# Altium footprint library PCB1.PcbLib: 14 footprints
Each footprint in its own frame and in the unit in brackets; x right, y up, seen from the top. Pads: shape width x height; smd on the part's side, far side on the other; paste and mask are expansions set on the pad; w line width, h text height; cw(c..) or ccw(c..) is an arc to the next point about the centre after c.
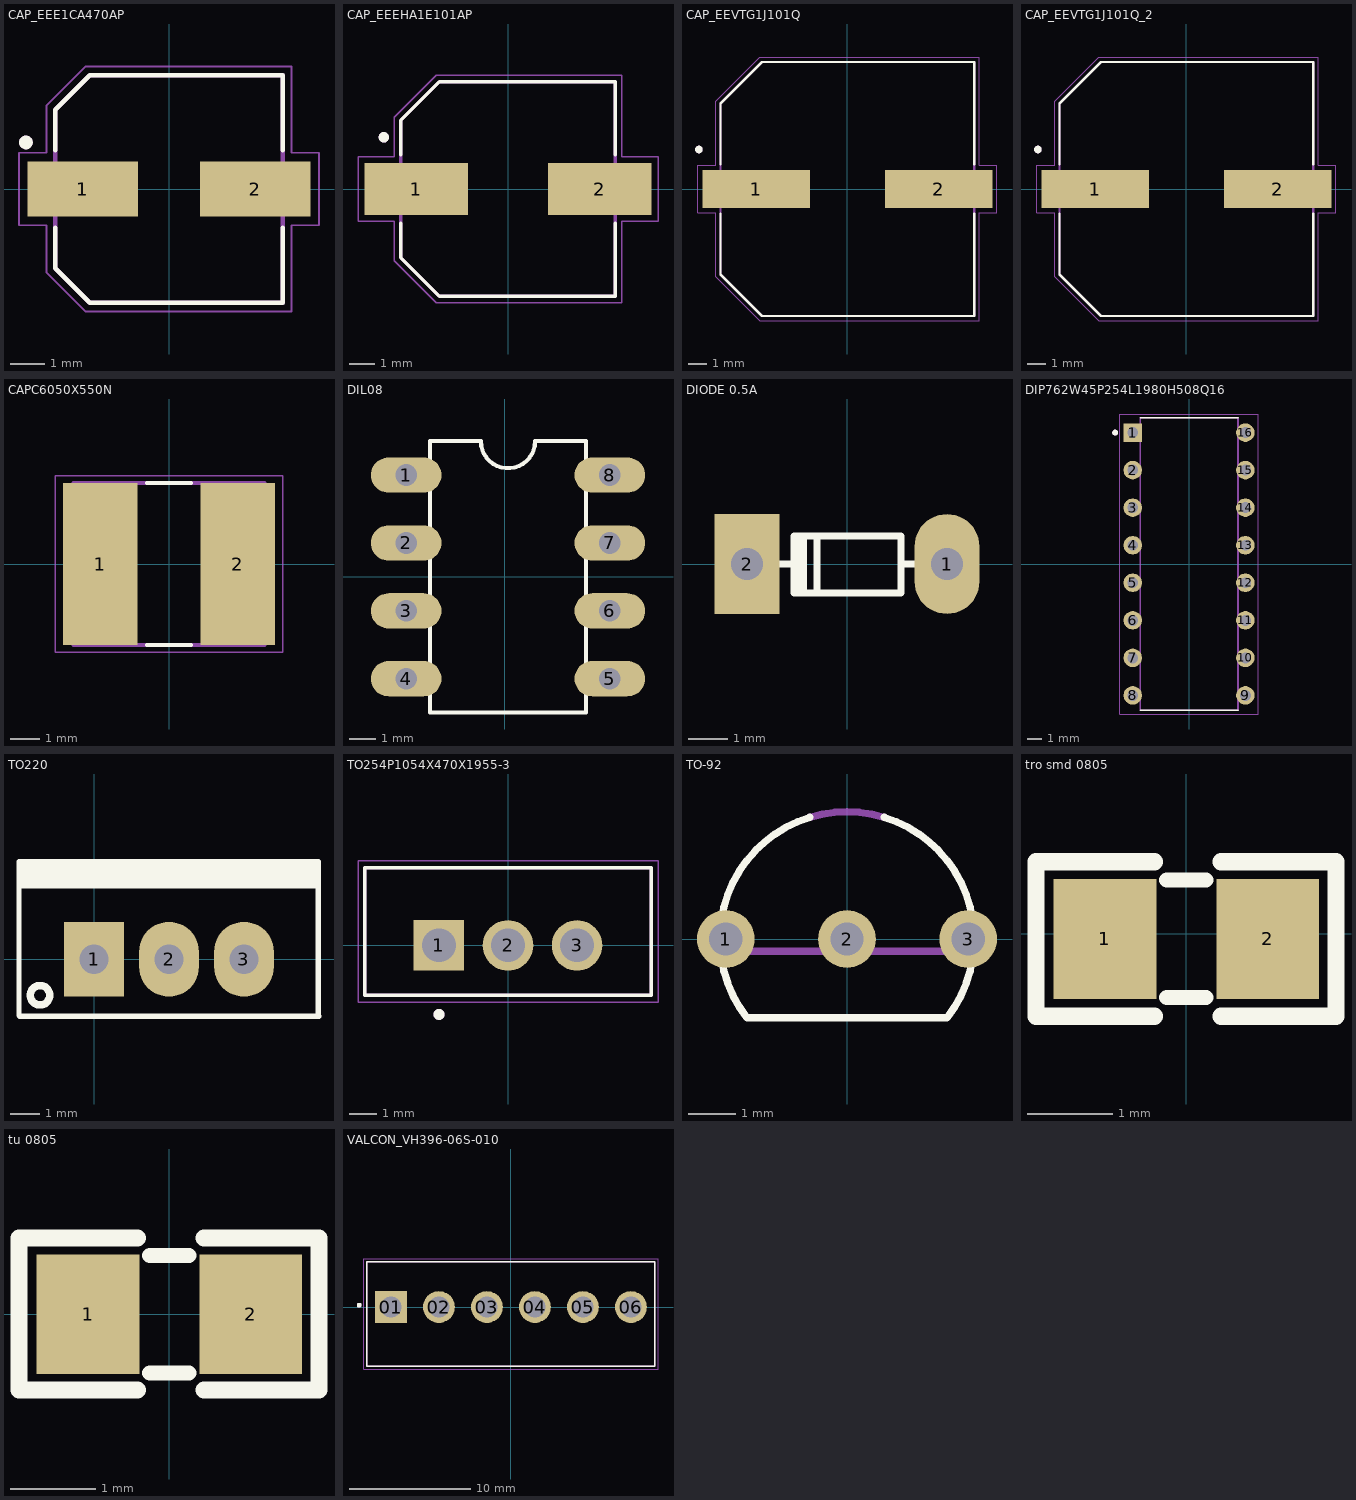
[diagram p0: the footprints below, top view; thin cyan lines are the x and y axes]

## CAP_EEE1CA470AP [mm]
pads (2):
  rect 3.2x1.6 smd: 1(-2.5,0) 2(2.5,0)
Top Overlay:
  circle w0.2: c-4.15,1.35 r0.1
  lines w0.127: -3.3,-1.12 -3.3,-2.3 -2.3,-3.3 3.3,-3.3 3.3,-1.12 ; -3.3,1.12 -3.3,2.3 -2.3,3.3 3.3,3.3 3.3,1.12
Mechanical 13:
  circle w0.2: c-4.15,1.35 r0.1
  lines w0.127: -3.3,-2.3 -2.3,-3.3 3.3,-3.3 3.3,3.3 -2.3,3.3 -3.3,2.3 -3.3,-2.3
Mechanical 15:
  lines w0.05: -4.35,-1.05 -4.35,1.05 -3.55,1.05 -3.55,2.425 -2.425,3.55 3.55,3.55 3.55,1.05 4.35,1.05 4.35,-1.05 3.55,-1.05 3.55,-3.55 -2.425,-3.55 -3.55,-2.425 -3.55,-1.05 -4.35,-1.05
3D body "step_temp.STEP": height 5.8, standoff 0, extent -3.65,-3.3 3.65,3.3

## CAP_EEEHA1E101AP [mm]
pads (2):
  rect 4x2 smd: 1(-3.55,0) 2(3.55,0)
Top Overlay:
  circle w0.2: c-4.8,2 r0.1
  lines w0.127: -4.15,-1.32 -4.15,-2.65 -2.65,-4.15 4.15,-4.15 4.15,-1.32 ; -4.15,1.32 -4.15,2.65 -2.65,4.15 4.15,4.15 4.15,1.32
Mechanical 13:
  circle w0.2: c-4.8,2 r0.1
  lines w0.127: -4.15,-2.65 -4.15,2.65 -2.65,4.15 4.15,4.15 4.15,-4.15 -2.65,-4.15 -4.15,-2.65
Mechanical 15:
  lines w0.05: -5.8,-1.25 -4.4,-1.25 -4.4,-2.775 -2.775,-4.4 4.4,-4.4 4.4,-1.25 5.8,-1.25 5.8,1.25 4.4,1.25 4.4,4.4 -2.775,4.4 -4.4,2.775 -4.4,1.25 -5.8,1.25 -5.8,-1.25
3D body "step_temp.STEP": height 10.2, standoff 0, extent -4.85,-4.15 4.85,4.15

## CAP_EEVTG1J101Q [mm]
pads (2):
  rect 5.7x2 smd: 1(-4.85,0) 2(4.85,0)
Top Overlay:
  circle w0.2: c-7.9,2.1 r0.1
  lines w0.127: -6.75,-1.32 -6.75,-4.55 -4.55,-6.75 6.75,-6.75 6.75,-1.32 ; -6.75,1.32 -6.75,4.55 -4.55,6.75 6.75,6.75 6.75,1.32
Mechanical 13:
  circle w0.2: c-7.9,2.1 r0.1
  lines w0.127: -6.75,-4.55 -4.55,-6.75 6.75,-6.75 6.75,6.75 -4.55,6.75 -6.75,4.55 -6.75,-4.55
Mechanical 15:
  lines w0.05: -7.95,-1.25 -7.95,1.25 -7,1.25 -7,4.675 -4.675,7 7,7 7,1.25 7.95,1.25 7.95,-1.25 7,-1.25 7,-7 -4.675,-7 -7,-4.675 -7,-1.25 -7.95,-1.25
3D body "step_temp.STEP": height 13.5, standoff 0, extent -7.45,-6.75 7.45,6.75

## CAP_EEVTG1J101Q_2 [mm]
pads (2):
  rect 5.7x2 smd: 1(-4.85,0) 2(4.85,0)
Top Overlay:
  circle w0.2: c-7.9,2.1 r0.1
  lines w0.127: -6.75,-1.32 -6.75,-4.55 -4.55,-6.75 6.75,-6.75 6.75,-1.32 ; -6.75,1.32 -6.75,4.55 -4.55,6.75 6.75,6.75 6.75,1.32
Mechanical 13:
  circle w0.2: c-7.9,2.1 r0.1
  lines w0.127: -6.75,-4.55 -6.75,4.55 -4.55,6.75 6.75,6.75 6.75,-6.75 -4.55,-6.75 -6.75,-4.55
Mechanical 15:
  lines w0.05: -7.95,-1.25 -7,-1.25 -7,-4.675 -4.675,-7 7,-7 7,-1.25 7.95,-1.25 7.95,1.25 7,1.25 7,7 -4.675,7 -7,4.675 -7,1.25 -7.95,1.25 -7.95,-1.25
3D body "step_temp.STEP": height 13.5, standoff 0, extent -7.45,-6.75 7.45,6.75

## CAPC6050X550N [mm]
pads (2):
  rect 2.53x5.51 smd: 1(-2.336,0) 2(2.336,0)
Top Overlay:
  lines w0.127: -0.75,-2.75 0.75,-2.75 ; -0.75,2.75 0.75,2.75
Mechanical 13:
  lines w0.127: -3.25,-2.75 3.25,-2.75 3.25,2.75 -3.25,2.75 -3.25,-2.75
Mechanical 15:
  lines w0.05: -3.853,-3.003 3.853,-3.003 3.853,3.003 -3.853,3.003 -3.853,-3.003
3D body "step_temp.STEP": height 5.5, standoff 0, extent -3,-2.5 3,2.5

## DIL08 [mil]
pads (8):
  oval 104x52 hole 32: 1(-145,150) 2(-145,50) 3(-145,-50) 4(-145,-150) 5(155,-150) 6(155,-50) 7(155,50) 8(155,150)
Top Overlay:
  lines w6: -110,-200 -110,200 -35,200 ccw(c5,200) 45,200 120,200 120,-200 -110,-200
3D body "step_temp.STEP": height 210, standoff -160, extent -150.75,-199.5 160.75,189.5

## DIODE 0.5A [mil] "Diode muoi, xung"
height 80
pads (2):
  oval 65x100 hole 32: 1(100,0)
  rect 65x100 hole 32: 2(-100,0)
Top Overlay:
  rectangle: -55.01,-30 -40.01,25
  lines w7: -80,0 -53,0 ; -30,-29 -30,28 ; 54,0 80,0 ; -53,-29 54,-29 54,28 -53,28 -53,-29
3D body "SW3dPS-1N4148.STEP": height 61.22, standoff -50, extent -108.5,-32.96 108.5,32

## DIP762W45P254L1980H508Q16 [mm]
pads (16):
  rect 1.248x1.248 hole 0.74: 1(-3.81,8.89)
  round 1.248 hole 0.74: 2(-3.81,6.35) 3(-3.81,3.81) 4(-3.81,1.27) 5(-3.81,-1.27) 6(-3.81,-3.81) 7(-3.81,-6.35) 8(-3.81,-8.89) 9(3.81,-8.89) 10(3.81,-6.35) 11(3.81,-3.81) 12(3.81,-1.27) 13(3.81,1.27) 14(3.81,3.81) 15(3.81,6.35) 16(3.81,8.89)
Top Overlay:
  circle w0.2: c-5,8.89 r0.1
  lines w0.127: -3.3,-9.9 3.3,-9.9 ; -3.3,9.9 3.3,9.9
Mechanical 13:
  circle w0.2: c-5,8.89 r0.1
  lines w0.127: -3.3,-9.9 -3.3,9.9 3.3,9.9 3.3,-9.9 -3.3,-9.9
Mechanical 15:
  lines w0.05: -4.685,-10.15 -4.685,10.15 4.685,10.15 4.685,-10.15 -4.685,-10.15
3D body "step_temp.STEP": height 5.08, standoff -3.94, extent -3.81,-9.779 3.81,10.033

## TO220 [mil] "TO-220"
height 200
pads (3):
  rect 80x100 hole 39: 1(0,0)
  oval 80x100 hole 39: 2(100,0) 3(200,0)
Top Overlay:
  circle w10: c-72.03,-48 r12.97
  rectangle: -99,94 300,130
  lines w7: 298,107 299,93 ; -100,-75 -100,130 299,130 299,-75 300,-76 -76,-76 -99,-76 -100,-75
3D body "User Library-TO-220-1.STEP": height 322.83, standoff -810.24, extent -94.88,-80 294.88,97.17

## TO254P1054X470X1955-3 [mm]
pads (3):
  rect 1.86x1.86 / inner round 1.86 / far side rect 1.86x1.86 hole 1.24: 1(-2.54,0)
  round 1.86 hole 1.24: 2(0,0) 3(2.54,0)
Top Overlay:
  circle w0.2: c-2.54,-2.54 r0.1
  lines w0.127: -5.27,-1.84 -5.27,2.86 5.27,2.86 5.27,-1.84 -5.27,-1.84
Mechanical 13:
  circle w0.2: c-2.54,-2.54 r0.1
  lines w0.127: -5.27,-1.84 -5.27,2.86 5.27,2.86 5.27,-1.84 -5.27,-1.84
Mechanical 15:
  lines w0.05: -5.52,-2.09 -5.52,3.11 5.52,3.11 5.52,-2.09 -5.52,-2.09
3D body "step_temp.STEP": height 19.68, standoff -9.22, extent -5.1,-2.25 5.1,2.25

## TO-92 [mm]
pads (3):
  round 1.208 hole 0.7: 1(-2.54,0) 2(0,0) 3(2.54,0)
Top Overlay:
  lines w0.152: -2.102,-1.642 cw(c-0.001,0) -0.78,2.55 ; -2.095,-1.651 2.095,-1.651 ; 0.78,2.55 cw(c0.001,0) 2.102,-1.642
Mechanical 13:
  lines w0.152: -2.254,-0.254 -0.286,-0.254 ; -0.78,2.55 cw(c0,0) 0.78,2.55 ; 0.286,-0.254 2.254,-0.254
3D body "step_temp.STEP": height 5.34, standoff -12.7, extent -2.412,-1.84 2.412,1.84

## tro smd 0805 [mm]
pads (2):
  rect 1.2x1.4 smd: 1(-0.946,-0.061) 2(0.954,-0.061)
Top Overlay:
  lines w0.178: -0.224,-0.747 0.233,-0.747 ; -0.224,0.625 0.233,0.625
  lines w0.2: -0.367,-0.965 -1.75,-0.965 -1.75,0.838 -0.367,0.838 ; 0.408,-0.965 1.75,-0.965 1.75,0.838 0.408,0.838
3D body "Tro 0805.STEP": height 0.53, standoff 0, extent -1.562,-0.763 1.438,0.637

## tu 0805 [mm] "Compoment SMD 80x50mil"
height 1.27
pads (2):
  rect 1.2x1.4 smd: 1(-0.946,-0.003) 2(0.954,-0.003)
Top Overlay:
  lines w0.178: -0.224,-0.689 0.233,-0.689 ; -0.224,0.682 0.233,0.682
  lines w0.2: -0.367,-0.889 -1.753,-0.889 -1.753,0.889 -0.367,0.889 ; 0.408,-0.889 1.753,-0.889 1.753,0.889 0.408,0.889
3D body "SW3dPS-smt_resistor_packages.STEP": height 0.61, standoff -0.01, extent -1.006,-0.638 1.014,0.632

## VALCON_VH396-06S-010 [mm]
pads (6):
  rect 2.625x2.625 / inner round 2.625 / far side rect 2.625x2.625 hole 1.75: 01(-9.9,0)
  round 2.625 hole 1.75: 02(-5.94,0) 03(-1.98,0) 04(1.98,0) 05(5.94,0) 06(9.9,0)
Top Overlay:
  circle w0.2: c-12.52,0.15 r0.1
  lines w0.127: -11.88,-4.9 11.88,-4.9 11.88,3.75 -11.88,3.75 -11.88,-4.9
Mechanical 13:
  circle w0.2: c-12.52,0.15 r0.1
  lines w0.127: -11.88,-4.9 -11.88,3.75 11.88,3.75 11.88,-4.9 -11.88,-4.9
Mechanical 15:
  lines w0.05: -12.13,-5.15 -12.13,4 12.13,4 12.13,-5.15 -12.13,-5.15
3D body "step_temp.STEP": height 10.9, standoff -3.7, extent -11.88,-4.9 11.88,3.75